# Altium footprint library MAL214699103E3.PcbLib: 2 footprints
Each footprint in its own frame and in the unit in brackets; x right, y up, seen from the top. Pads: shape width x height; smd on the part's side, far side on the other; paste and mask are expansions set on the pad; w line width, h text height; cw(c..) or ccw(c..) is an arc to the next point about the centre after c.
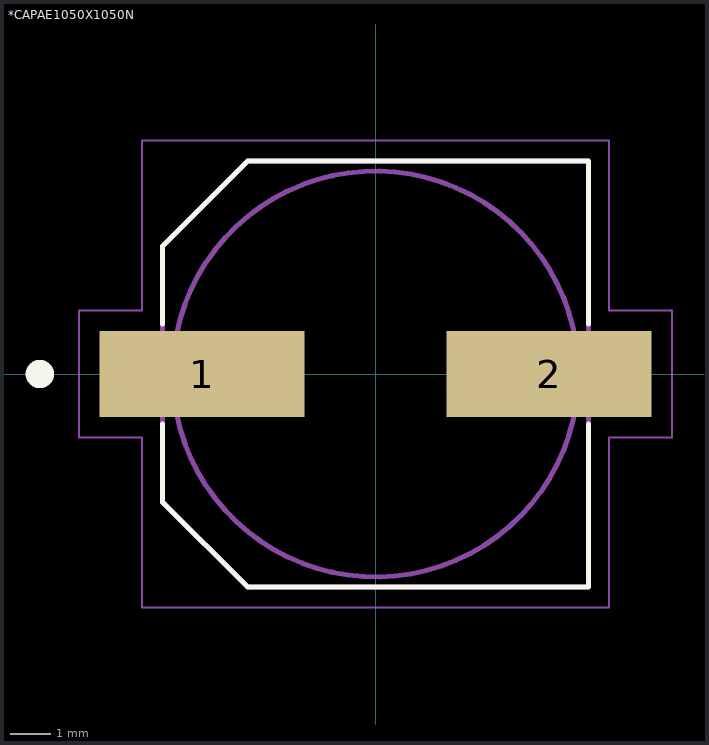
[diagram p0: the footprints below, top view; thin cyan lines are the x and y axes]

## *CAPAE1050X1050N [mm]
pads (2):
  rect 5.06x2.11 smd: 1(-4.275,0) 2(4.275,0)
Top Overlay:
  circle w0.5: c-8.27,0 r0.1
  lines w0.127: -5.25,-1.24 -5.25,-3.16 -3.15,-5.25 5.25,-5.25 5.25,-1.24 ; -5.25,1.24 -5.25,3.15 -3.15,5.25 5.25,5.25 5.25,1.24
Mechanical 4:
  circle w0.127: c0,0 r5
  circle w0.127: c0,0 r5
  lines w0.127: -5.25,-3.15 -5.25,3.15 ; -5.25,-3.15 -3.15,-5.25 ; -5.25,-3.15 -5.25,3.15 ; -5.25,-3.15 -3.15,-5.25 ; -5.25,3.15 -3.15,5.25 ; -5.25,3.15 -3.15,5.25 ; -3.15,-5.25 5.25,-5.25 ; -3.15,-5.25 5.25,-5.25 ; -3.15,5.25 5.25,5.25 ; -3.15,5.25 5.25,5.25 ; 5.25,-5.25 5.25,5.25 ; 5.25,-5.25 5.25,5.25
Mechanical 16:
  lines w0.05: -7.31,-1.56 -5.75,-1.56 -5.75,-5.75 5.75,-5.75 5.75,-1.56 7.31,-1.56 7.31,1.56 5.75,1.56 5.75,5.75 -5.75,5.75 -5.75,1.56 -7.31,1.56 -7.31,-1.56

## PCBComponent_1 [mm]